# Altium integrated library ceramic_filters.IntLib: 2 symbols
Pins are listed as number, name and electrical type; pins without a type are passive.

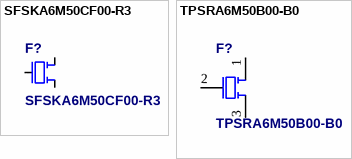
[diagram p0: symbols SFSKA6M50CF00-R3 to TPSRA6M50B00-B0]

## SFSKA6M50CF00-R3
designator F?
Murata SMD 6,5 MHz Ceramic Filter
footprint 8,5 x 3,8 x 2,0 SFSKA Series (SMD Type Ceramic Filters  Frequency: 4.5 to 6.5MHz  Size: 8.5 x 3.8 x 2.0mm)
pins: 1, 2, 3

## TPSRA6M50B00-B0
designator F?
Murata THT 6,5 MHz Ceramic Filter
footprint 3x1 CERAMIC FILTER
pins: 1, 2, 3